# Altium footprint library supersensor.PcbLib: 11 footprints
Each footprint in its own frame and in the unit in brackets; x right, y up, seen from the top. Pads: shape width x height; smd on the part's side, far side on the other; paste and mask are expansions set on the pad; w line width, h text height; cw(c..) or ccw(c..) is an arc to the next point about the centre after c.
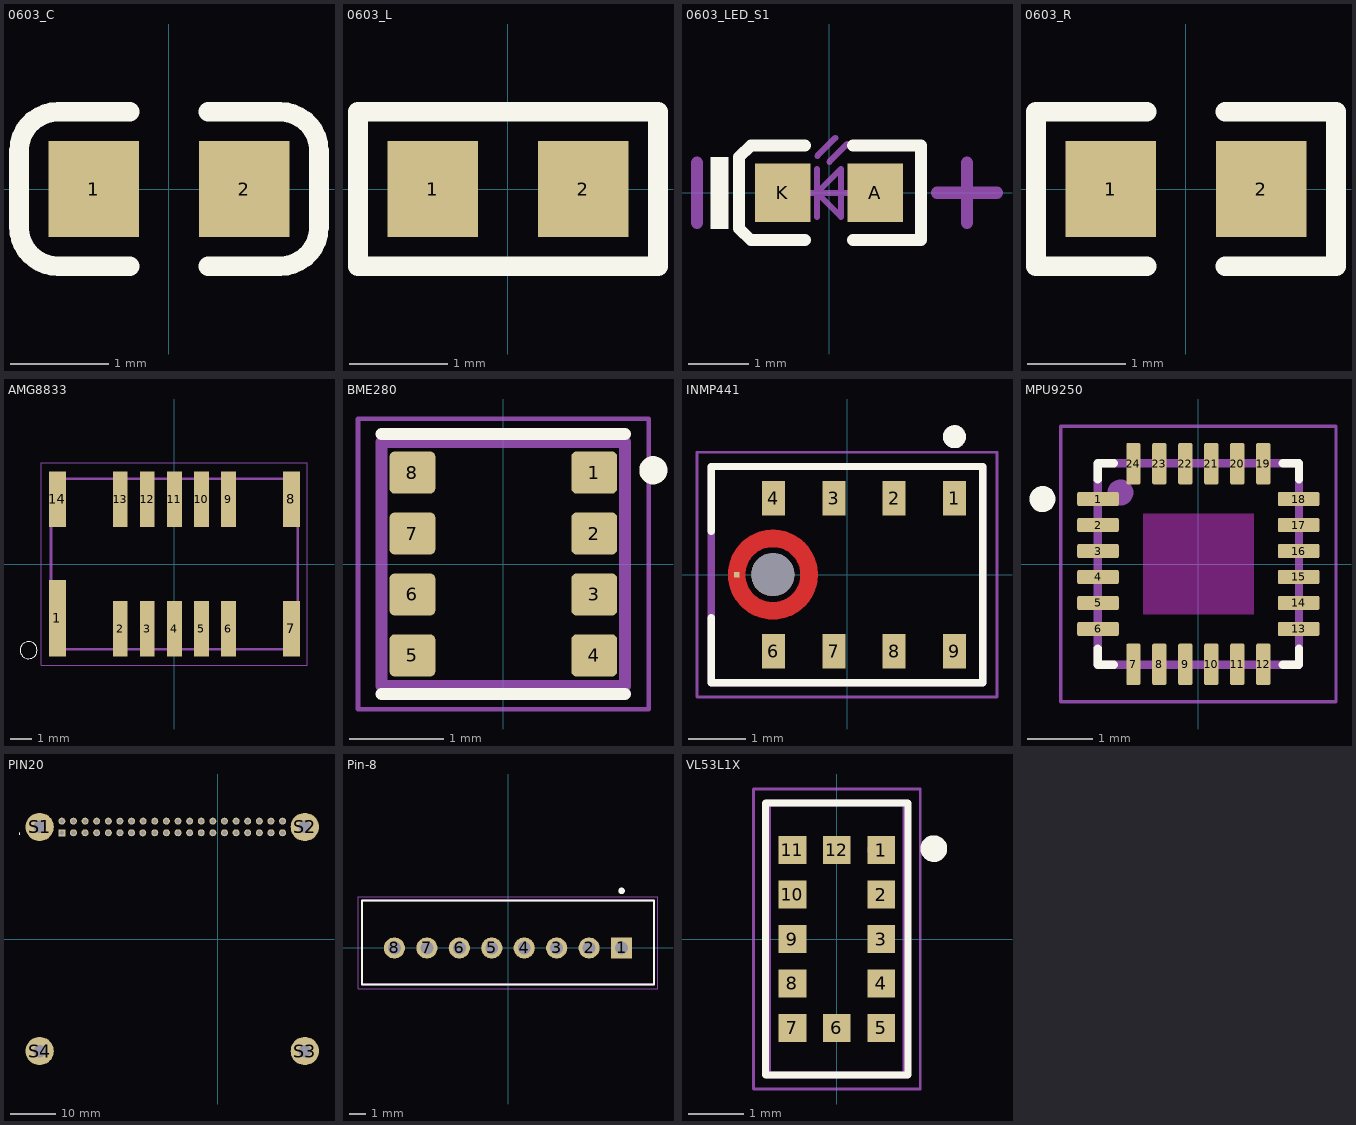
[diagram p0: the footprints below, top view; thin cyan lines are the x and y axes]

## 0603_C [mm]
pads (2):
  rect 0.93x0.98 smd: 1(-0.77,0) 2(0.77,0)
Top Overlay:
  lines w0.2: -0.4,-0.79 -1.135,-0.79 cw(c-1.135,-0.39) -1.535,-0.39 -1.535,0.39 cw(c-1.135,0.39) -1.135,0.79 -0.4,0.79 ; 0.4,-0.79 1.135,-0.79 ccw(c1.135,-0.39) 1.535,-0.39 1.535,0.39 ccw(c1.135,0.39) 1.135,0.79 0.4,0.79
3D body "User Library-0603 SMD Capacitor.STEP": height 0.3, standoff 0, extent -0.8,-0.4 0.8,0.4

## 0603_L [mm]
pads (2):
  rect 0.93x0.98 smd: 1(-0.77,0) 2(0.77,0)
Top Overlay:
  lines w0.2: -1.535,-0.79 1.535,-0.79 1.535,0.79 -1.535,0.79 -1.535,-0.79
3D body "L0603.STEP": height 0.46, standoff -0.01, extent -0.825,-0.412 0.825,0.413

## 0603_LED_S1 [mm]
pads (2):
  rect 0.93x0.98 smd: A(0.77,0) K(-0.77,0)
Top Overlay:
  rectangle: -1.975,-0.6 -1.675,0.6
  lines w0.2: -0.4,-0.79 -1.3,-0.79 -1.5,-0.597 -1.5,0.597 -1.3,0.79 -0.4,0.79 ; 0.4,-0.79 1.535,-0.79 1.535,0.79 0.4,0.79
Mechanical 13:
  lines w0.1: -0.4,0 0.4,0 ; -0.2,-0.4 -0.2,0.4 ; -0.195,0.617 0.105,0.917 ; 0.005,0.517 0.305,0.817 ; -0.2,0 0.2,-0.4 0.2,0.4 -0.2,0
Mechanical 15:
  lines w0.203: -2.2,-0.5 -2.2,0.5 ; 1.8,0 2.8,0 ; 2.3,-0.5 2.3,0.5
3D body "User Library-LED_0603_R.STEP": height 0.6, standoff 0, extent -0.8,-0.4 0.8,0.4

## 0603_R [mm]
pads (2):
  rect 0.93x0.98 smd: 1(-0.77,0) 2(0.77,0)
Top Overlay:
  lines w0.2: -0.4,-0.79 -1.535,-0.79 -1.535,0.79 -0.4,0.79 ; 0.4,-0.79 1.535,-0.79 1.535,0.79 0.4,0.79
3D body "User Library-RES_1609-0603.STEP": height 0.56, standoff 0, extent -0.85,-0.4 0.85,0.4

## AMG8833 [mm]
pads (14):
  rect 0.8x3.6 smd: 1(-5.5,-2.55)
  rect 0.7x2.6 smd: 2(-2.54,-3.05) 3(-1.27,-3.05) 4(0,-3.05) 5(1.27,-3.05) 6(2.54,-3.05) 9(2.54,3.05) 10(1.27,3.05) 11(0,3.05) 12(-1.27,3.05) 13(-2.54,3.05)
  rect 0.8x2.6 smd: 7(5.5,-3.05) 8(5.5,3.05) 14(-5.5,3.05)
Top Overlay:
  circle w0: c-6.85,-4.05 r0.4
Mechanical 13:
  lines w0.127: -5.8,-4 5.8,-4 5.8,4 -5.8,4 -5.8,-4
Mechanical 15:
  lines w0.05: -6.25,-4.75 6.25,-4.75 6.25,4.75 -6.25,4.75 -6.25,-4.75
3D body "AMG8833--3DModel-STEP-56544.STEP": height 4.3, standoff 0, extent -5.8,-4 5.8,4

## BME280 [mm]
pads (8):
  rrect25% 0.49x0.45 smd: 1(0.97,0.975) 2(0.97,0.325) 3(0.97,-0.325) 4(0.97,-0.975) 5(-0.97,-0.975) 6(-0.97,-0.325) 7(-0.97,0.325) 8(-0.97,0.975)
Top Overlay:
  circle w0.2: c1.6,1 r0.05
  lines w0.127: -1.3,-1.385 1.3,-1.385 ; -1.3,1.385 1.3,1.385
Mechanical 13:
  circle w0.2: c1,1 r0.05
  lines w0.127: -1.3,-1.3 -1.3,1.3 1.3,1.3 1.3,-1.3 -1.3,-1.3
Mechanical 15:
  lines w0.05: -1.55,-1.55 1.55,-1.55 1.55,1.55 -1.55,1.55 -1.55,-1.55
3D body "BME280--3DModel-STEP-56544.STEP": height 1, standoff 0, extent -1.225,-1.25 1.275,1.25

## INMP441 [mm]
pads (10):
  rect 0.4x0.6 smd paste-1: 1(1.87,1.33) 2(0.82,1.33) 3(-0.23,1.33) 4(-1.28,1.33) 6(-1.28,-1.33) 7(-0.23,-1.33) 8(0.82,-1.33) 9(1.87,-1.33)
  rect 0.1x0.1 smd paste-1 mask+0: 5(-1.92,0)
  round 0.75 hole 0.75 unplated: ""(-1.29,0)
Top Layer:
  region: 242 vertices and 0 holes, not listed, extent -2.07,-0.78 -0.51,0.78
Top Overlay:
  circle w0.2: c1.87,2.4 r0.1
  lines w0.127: -2.36,-0.75 -2.36,-1.88 2.36,-1.88 2.36,1.88 -2.36,1.88 -2.36,0.75
Top Paste:
  drawing of 10 lines, arcs and shapes, not listed
Top Solder:
  circle w0.88: c-1.29,0 r0.44
Mechanical 13:
  circle w0.2: c1.87,2.4 r0.1
  lines w0.127: -2.36,-1.88 -2.36,1.88 2.36,1.88 2.36,-1.88 -2.36,-1.88
Mechanical 15:
  lines w0.05: -2.61,-2.13 -2.61,2.13 2.61,2.13 2.61,-2.13 -2.61,-2.13
3D body "INMP441ACEZ-R7--3DModel-STEP-56544.STEP": height 1.05, standoff 0, extent -2.334,-1.88 2.385,1.88

## MPU9250 [mm]
pads (24):
  rrect25% 0.64x0.22 smd: 1(-1.545,1) 2(-1.545,0.6) 3(-1.545,0.2) 4(-1.545,-0.2) 5(-1.545,-0.6) 6(-1.545,-1) 13(1.545,-1) 14(1.545,-0.6) 15(1.545,-0.2) 16(1.545,0.2) 17(1.545,0.6) 18(1.545,1)
  rrect25% 0.22x0.64 smd: 7(-1,-1.545) 8(-0.6,-1.545) 9(-0.2,-1.545) 10(0.2,-1.545) 11(0.6,-1.545) 12(1,-1.545) 19(1,1.545) 20(0.6,1.545) 21(0.2,1.545) 22(-0.2,1.545) 23(-0.6,1.545) 24(-1,1.545)
Top Overlay:
  circle w0.2: c-2.4,1 r0.1
  lines w0.127: -1.55,-1.3 -1.55,-1.55 -1.3,-1.55 ; -1.55,1.3 -1.55,1.55 -1.3,1.55 ; 1.3,-1.55 1.55,-1.55 1.55,-1.3 ; 1.3,1.55 1.55,1.55 1.55,1.3
Keep-Out Layer:
  region: 0.85,-0.77 -0.85,-0.77 -0.85,0.77 0.85,0.77
  region: 0.85,-0.77 -0.85,-0.77 -0.85,0.77 0.85,0.77
Mechanical 13:
  circle w0.2: c-1.2,1.1 r0.1
  lines w0.127: -1.55,-1.55 1.55,-1.55 1.55,1.55 -1.55,1.55 -1.55,-1.55
Mechanical 15:
  lines w0.05: -2.12,-2.12 2.12,-2.12 2.12,2.12 -2.12,2.12 -2.12,-2.12
3D body "MPU-9250--3DModel-STEP-1.STEP": height 1, standoff -0.05, extent -1.499,-1.501 1.501,1.499

## PIN20 [mil]
pads (44):
  rect 60x60 hole 40: 1(-1343.7,914.57)
  round 60 hole 40: 2(-1343.7,1014.57) 3(-1243.7,914.57) 4(-1243.7,1014.57) 5(-1143.7,914.57) 6(-1143.7,1014.57) 7(-1043.7,914.57) 8(-1043.7,1014.57) 9(-943.7,914.57) 10(-943.7,1014.57) 11(-843.7,914.57) 12(-843.7,1014.57) 13(-743.7,914.57) 14(-743.7,1014.57) 15(-647,914) 16(-643.7,1014.57) 17(-543.7,914.57) 18(-543.7,1014.57) 19(-443.7,914.57) 20(-443.7,1014.57) 21(-343.7,914.57) 22(-343.7,1014.57) 23(-243.7,914.57) 24(-243.7,1014.57) 25(-143.7,914.57) 26(-143.7,1014.57) 27(-43.7,914.57) 28(-43.7,1014.57) 29(56.3,914.57) 30(56.3,1014.57) 31(156.3,914.57) 32(156.3,1014.57) 33(256.3,914.57) 34(256.3,1014.57) 35(356.3,914.57) 36(356.3,1014.57) 37(456.3,914.57) 38(456.3,1014.57) 39(556.3,914.57) 40(556.3,1014.57)
  round 244.09 hole 108.27: S1(-1535.43,964.57) S2(748.03,964.57) S3(748.03,-964.57) S4(-1535.43,-964.57)
Top Overlay:
  circle w7.87: c-1708.66,905.51 r3.94
Mechanical 13:
  circle w7.87: c-1708.66,905.51 r3.94

## Pin-8 [mm]
pads (8):
  rect 1.308x1.308 hole 0.8: 1(7.023,0)
  round 1.308 hole 0.8: 2(5.016,0) 3(3.01,0) 4(1.003,0) 5(-1.003,0) 6(-3.01,0) 7(-5.016,0) 8(-7.023,0)
Top Overlay:
  circle w0.2: c7.023,3.53 r0.1
  lines w0.127: -9.023,-2.27 9.023,-2.27 9.023,2.93 -9.023,2.93 -9.023,-2.27
Mechanical 13:
  circle w0.2: c7.023,3.53 r0.1
  lines w0.127: -9.023,-2.27 9.023,-2.27 9.023,2.93 -9.023,2.93 -9.023,-2.27
Mechanical 15:
  lines w0.05: -9.273,-2.52 9.273,-2.52 9.273,3.18 -9.273,3.18 -9.273,-2.52
3D body "1735446-8.stp": height 7, standoff -2.47, extent -9.042,-3.023 8.958,2.777

## VL53L1X [mm]
pads (12):
  rect 0.5x0.5 smd: 1(0.8,1.6) 2(0.8,0.8) 3(0.8,0) 4(0.8,-0.8) 5(0.8,-1.6) 6(0,-1.6) 7(-0.8,-1.6) 8(-0.8,-0.8) 9(-0.8,0) 10(-0.8,0.8) 11(-0.8,1.6) 12(0,1.6)
Top Overlay:
  circle w0.24: c1.746,1.627 r0.12
  lines w0.127: -1.28,-2.45 1.28,-2.45 1.28,2.45 -1.28,2.45 -1.28,-2.45
Mechanical 13:
  circle w0.3: c0.8,1.6 r0.1
  lines w0.127: -1.25,-2.45 -1.25,2.45 1.25,2.45 1.25,-2.45 -1.25,-2.45
Mechanical 15:
  lines w0.05: -1.5,-2.7 -1.5,2.7 1.5,2.7 1.5,-2.7 -1.5,-2.7
3D body "vl53l1cxv0fy_1.stp": height 1.4, standoff 0, extent -1.2,-2.412 1.2,2.388